# Altium schematic symbol library MM3Z12VT1GX.SchLib: 1 symbol
Pins are listed as number, name and electrical type; pins without a type are passive.

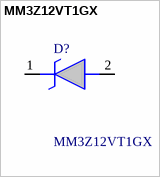
[diagram p0: symbol MM3Z12VT1GX]

## MM3Z12VT1GX
designator D?
Zener Diodes MM3Z12VT1G/SOD323/SOD2; Manufacturer_Name: Nexperia; Geometry.Height: 1.1mm; Mouser Part Number: 771-MM3Z12VT1GX; Mouser Price/Stock: https://www.mouser.co.uk/ProductDetail/Nexperia/MM3Z12VT1GX?qs=DRkmTr78QAQGsxQiWVNHbQ%3D%3D; Manufacturer_Part_Number: MM3Z12VT1GX; Datasheet Link: *
footprint SOD2512X110N
pins: 1 K, 2 A